# Altium schematic symbol library Pinger Library.SchLib: 8 symbols
Pins are listed as number, name and electrical type; pins without a type are passive.

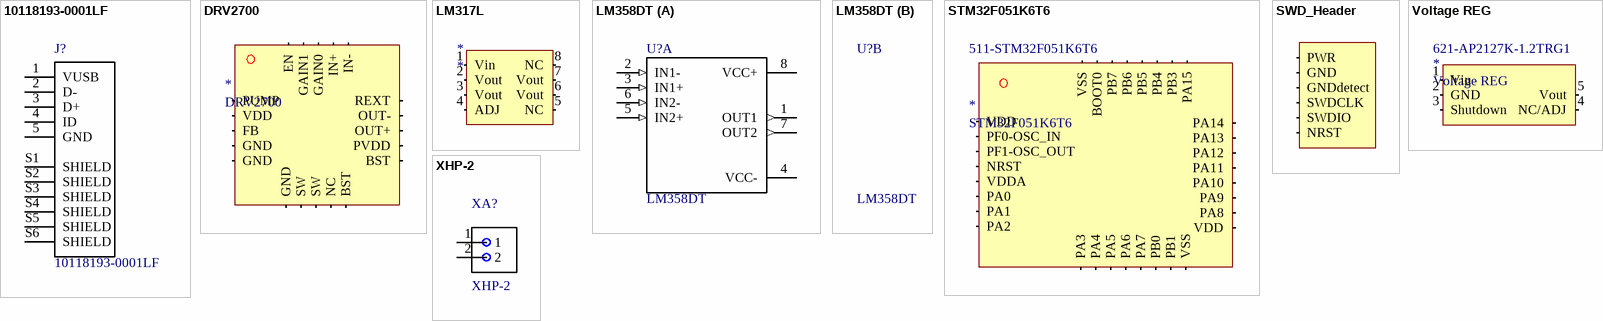
[diagram p0: symbols 10118193-0001LF to XHP-2]

## 10118193-0001LF
designator J?
Single Port 5 Contact Shielded SMT MICRO USB B-Type Receptacle; MF: Amphenol ICC; Availability: Unavailable; SnapEDA_Link: https://www.snapeda.com/parts/10118193-0001LF/Amphenol%20ICC/view-part/?ref=snap; MP: 10118193-0001LF; Price: None; Package: None; Value: *
footprint *FCI_10118193-0001LF_10118193-0001LF(Primary)
pins: 1 VUSB, 2 D-, 3 D+, 4 ID, 5 GND, S1 SHIELD, S2 SHIELD, S3 SHIELD, S4 SHIELD, S5 SHIELD, S6 SHIELD

## DRV2700
designator *
Supplier 1: Mouser; Supplier Part Number 1: 595-DRV2700RGPR
footprint QFN50P400X400X100_HS-21N (QFN, 20-Leads, Body 4.00x4.00mm, Pitch 0.50mm, Thermal Pad 2.75x2.75mm, IPC Medium Density)
pins: 1 PUMP (power) "Internal charge-pump voltage", 2 VDD (power) "Power supply (connect to battery)", 3 FB (in) "Boost feedback", 4 GND (out), 5 GND (out), 6 GND (out), 7 SW (power) "Internal-boost switch pin", 8 SW (power) "Internal-boost switch pin", 9 NC (hiz) "No connect", 10 BST (power) "Boost output voltage", 11 BST (power), 12 PVDD (power) "Amplifier supply voltage", 13 OUT+ (out) "Noninverting output", 14 OUT- (out) "Inverting output", 15 REXT (in) "Resistor to ground. This pin sets the boost current-limit.", 16 IN- (in) "Inverting input", 17 IN+ (in) "Noninverting input", 18 GAIN0 (in) "Gain programming pin — least significant bit (LSB)", 19 GAIN1 (in) "Gain programming pin — most significant bit (MSB)", 20 EN (in) "Chip enable"

## LM317L
designator *
footprint *SOIC127P600X175-8N
pins: 1 Vin (in), 2 Vout (out), 3 Vout (out), 4 ADJ (in), 5 NC, 6 Vout (out), 7 Vout (out), 8 NC

## LM358DT
designator U?
LM358 Series 30 V 1.1 MHz Low Power Dual Operational Amplifier - SOIC-8; MF: STMicroelectronics; MP: LM358DT; SnapEDA_Link: https://www.snapeda.com/parts/LM358DT/STMicroelectronics/view-part/?ref=snap; Digi-Key_Purchase_URL: https://www.digikey.com/product-detail/en/rohm-semiconductor/LM358DT/LM358DTCT-ND/1878968?utm_source=snapeda&utm_medium=aggregator&utm_campaign=symbol; Package: SOIC-8 STMicroelectronics; Digi-Key_Part_Number: LM358DTCT-ND; Value: *
footprint *SOIC127P600X175-8N
part A pins: 1 OUT1 (out), 2 IN1- (in), 3 IN1+ (in), 4 VCC- (power), 5 IN2+ (in), 6 IN2- (in), 7 OUT2 (out), 8 VCC+ (power)

## STM32F051K6T6
designator *  Supplier Part Number 1: 511-STM32F051K6T6
Supplier 1: Mouser
footprint TQFP68P900X900X160-32N (TQFP, 32-Leads, Body 7.00x7.00mm, Pitch 0.68mm, IPC Medium Density)
pins: 1 VDD (power), 2 PF0-OSC_IN (io) "OSC_IN", 3 PF1-OSC_OUT (in) "OSC_OUT", 4 NRST (io) "Device reset input / internal reset output (active low)", 5 VDDA (power) "Analog power supply", 6 PA0 (io), 7 PA1 (io), 8 PA2 (io), 9 PA3 (io), 10 PA4 (io), 11 PA5 (io), 12 PA6 (io), 13 PA7 (io), 14 PB0 (io), 15 PB1 (io), 16 VSS (power) "ground", 17 VDD (power) "Digital power supply", 18 PA8 (io), 19 PA9 (io), 20 PA10 (io), 21 PA11 (io), 22 PA12 (io), 23 PA13 (io), 24 PA14 (io), 25 PA15 (io), 26 PB3 (io), 27 PB4 (io), 28 PB5 (io), 29 PB6 (io), 30 PB7 (io), 31 BOOT0 (in) "Boot memory selection", 32 VSS (power) "Ground"

## SWD_Header
designator *  (value not drawn)
footprint Male_header
pins: 1 PWR (power), 2 GND (out), 3 GNDdetect (out), 4 SWDCLK (in), 5 SWDIO (io), 6 NRST (out)

## Voltage REG
designator *  Supplier Part Number 1: 621-AP2127K-1.2TRG1
Supplier 1: Mouser
footprint SOT23-5 (SOT143-4 as used in SP0503BAHTG)
pins: 1 Vin (in), 2 GND (out), 3 Shutdown (in), 4 NC/ADJ (in), 5 Vout (out)

## XHP-2
designator XA?
Receptacle Housing; MF: JST Sales; Availability: Unavailable; SnapEDA_Link: https://www.snapeda.com/parts/XHP-2/JST%20Sales%20America%20Inc./view-part/?ref=snap; MP: XHP-2; Price: None; Package: None; Value: *
footprint *JST_XHP-2
pins: 1, 2